# EAGLE library part LPC1102-WLCSP16 (library lpc1102_revb)
NXP Semiconductors LPC1102 microcontroller <http://ics.nxp.com/products/lpc1000/lpc11xx/lpc1102/> ARM 32-bit Cortex-M0 Microcontroller with MPU CPU clock up to 50MHz 32KByte on-chip Flash ROM with In-System Programming (ISP) and In-Application Programming (IAP) via On-Chip Bootloader 8KByte SRAM Nested Vectored Interrupt Controller SPI controller UART with full Modem Interface and RS485 Support 4 Timers with 4 capture channels and 13 output channels Watchdog (WDT) Sytem tick timer 10-bit ADC with 5 channels Power Management Unit (PMU) Brownout detection 12MHz internal RC oscillator Serial Wire Debug/Trace port
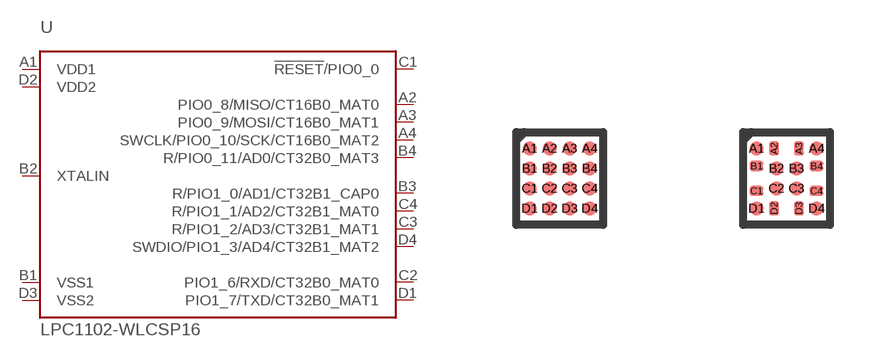
[diagram p0: symbol with the pads of WLCSP16; footprints WLCSP16, WLCSP16_MOD]

Designator prefix -

## LPC1102-WLCSP16ORIG  [WLCSP16]
A1  VDD1  pwr
A2  PIO0_8/MISO/CT16B0_MAT0
A3  PIO0_9/MOSI/CT16B0_MAT1
A4  SWCLK/PIO0_10/SCK/CT16B0_MAT2
B1  VSS1  pwr
B2  XTALIN  pas
B3  R/PIO1_0/AD1/CT32B1_CAP0
B4  R/PIO0_11/AD0/CT32B0_MAT3
C1  !RESET!/PIO0_0
C2  PIO1_6/RXD/CT32B0_MAT0
C3  R/PIO1_2/AD3/CT32B1_MAT1
C4  R/PIO1_1/AD2/CT32B1_MAT0
D1  PIO1_7/TXD/CT32B0_MAT1
D2  VDD2  pwr
D3  VSS2  pwr
D4  SWDIO/PIO1_3/AD4/CT32B1_MAT2

## LPC1102-WLCSP16MOD  [WLCSP16_MOD]
Pads as for WLCSP16

## Footprint WLCSP16 (pad centres in mm)
WLCSP-16 2.17x3.32x0.6mm Wafer Level chip-size package
smd 0.35 x 0.35: A1 -0.75,0.75; A2 -0.25,0.75; A3 0.25,0.75; A4 0.75,0.75; B1 -0.75,0.25; B2 -0.25,0.25; B3 0.25,0.25; B4 0.75,0.25; C1 -0.75,-0.25; C2 -0.25,-0.25; C3 0.25,-0.25; C4 0.75,-0.25; D1 -0.75,-0.75; D2 -0.25,-0.75; D3 0.25,-0.75; D4 0.75,-0.75

## Footprint WLCSP16_MOD (pad centres in mm)
smd 0.35 x 0.35: A1 -0.75,0.75; A4 0.75,0.75; B2 -0.25,0.25; B3 0.25,0.25; C2 -0.25,-0.25; C3 0.25,-0.25; D1 -0.75,-0.75; D4 0.75,-0.75
smd 0.25 x 0.35: A2 -0.31,0.75; A3 0.31,0.75; D2 -0.31,-0.75; D3 0.31,-0.75
smd 0.35 x 0.25: B1 -0.75,0.31; B4 0.75,0.31; C1 -0.75,-0.31; C4 0.75,-0.31